# Altium schematic symbol library power_supplies_power_mux.SchLib: 3 symbols
Pins are listed as number, name and electrical type; pins without a type are passive.

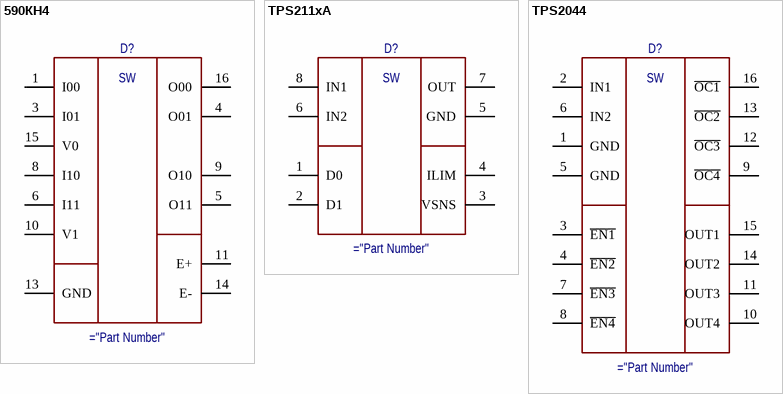
[diagram p0: symbols 590КН4 to TPS2044]

## 590КН4
designator D?
Power Mux
pins: 1 I00, 2 hidden, 3 I01, 4 O01, 5 O11, 6 I11, 7 hidden, 8 I10, 9 O10, 10 V1, 11 E+, 12 hidden, 13 GND, 14 E-, 15 V0, 16 O00
text: SW

## TPS211xA
designator D?
Power Mux
pins: 1 D0, 2 D1, 3 VSNS, 4 ILIM, 5 GND, 6 IN2, 7 OUT, 8 IN1
text: SW

## TPS2044
designator D?
Power Mux
pins: 1 GND, 2 IN1, 3 ~{EN1}, 4 ~{EN2}, 5 GND, 6 IN2, 7 ~{EN3}, 8 ~{EN4}, 9 ~{OC4}, 10 OUT4, 11 OUT3, 12 ~{OC3}, 13 ~{OC2}, 14 OUT2, 15 OUT1, 16 ~{OC1}
text: SW